# Altium integrated library X9C103S.IntLib: 1 symbol
Pins are listed as number, name and electrical type; pins without a type are passive.

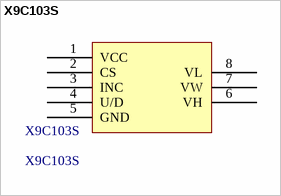
[diagram p0: symbol X9C103S]

## X9C103S
designator X9C103S
footprint X9C103S
pins: 1 VCC, 2 CS, 3 INC, 4 U/D, 5 GND, 6 VH, 7 VW, 8 VL